# Altium footprint library Radio.PcbLib: 2 footprints
Each footprint in its own frame and in the unit in brackets; x right, y up, seen from the top. Pads: shape width x height; smd on the part's side, far side on the other; paste and mask are expansions set on the pad; w line width, h text height; cw(c..) or ccw(c..) is an arc to the next point about the centre after c.
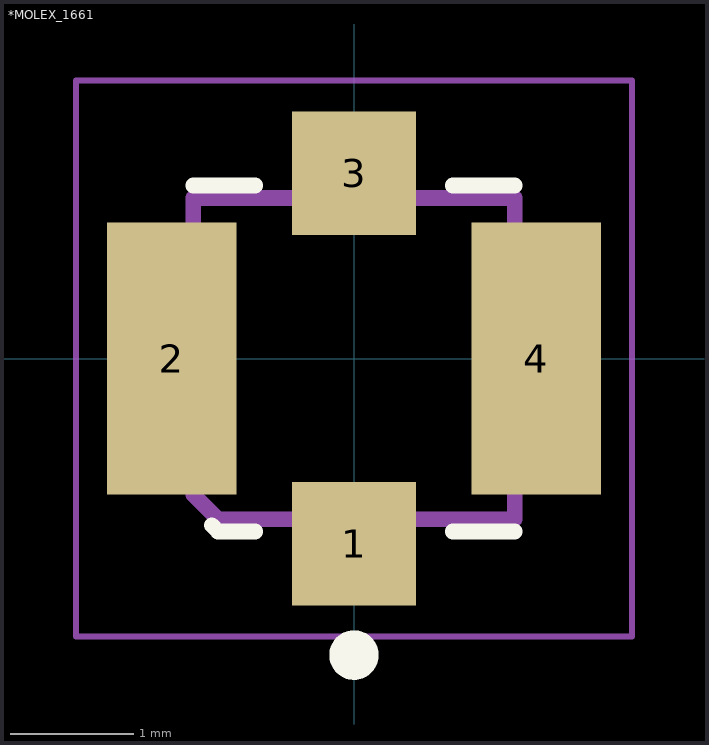
[diagram p0: the footprints below, top view; thin cyan lines are the x and y axes]

## *MOLEX_1661 [mm]
pads (4):
  rect 1x1 smd: 1(0,-1.5) 3(0,1.5)
  rect 1.05x2.2 smd: 2(-1.475,0) 4(1.475,0)
Top Overlay:
  circle w0.2: c0,-2.4 r0.1
  lines w0.127: -1.3,1.4 -0.8,1.4 ; -1.15,-1.35 -1.1,-1.4 -0.8,-1.4 ; 0.8,-1.4 1.3,-1.4 ; 0.8,1.4 1.3,1.4
Mechanical 4:
  lines w0.127: -1.3,-1.1 -1.1,-1.3 ; -1.3,-1.1 -1.3,1.3 ; -1.3,-1.1 -1.1,-1.3 ; -1.3,-1.1 -1.3,1.3 ; -1.3,1.3 1.3,1.3 ; -1.3,1.3 1.3,1.3 ; -1.1,-1.3 1.3,-1.3 ; -1.1,-1.3 1.3,-1.3 ; 1.3,-1.3 1.3,1.3 ; 1.3,-1.3 1.3,1.3
Mechanical 16:
  lines w0.05: -2.25,-2.25 -2.25,2.25 2.25,2.25 2.25,-2.25 -2.25,-2.25

## PCBComponent_1 [mm]